# EAGLE library part LT1932ES6 (library Labor)
Constant-Current DC/DC LED Driver in ThinSOT Features Up to 80% Efficiency Inherently Matched LED Current Adjustable Control of LED Current Drives Five White LEDs from 2V Drives Six White LEDs from 2.7V Drives Eight White LEDs from 3V Disconnects LEDs In Shutdown 1.2MHz Fixed Frequency Switching Uses Tiny Ceramic Capacitors Uses Tiny 1mm-Tall Inductors Regulates Current Even When VIN > VOUT Operates with VIN as Low as 1V Low Profile (1mm) ThinSOTTM Package
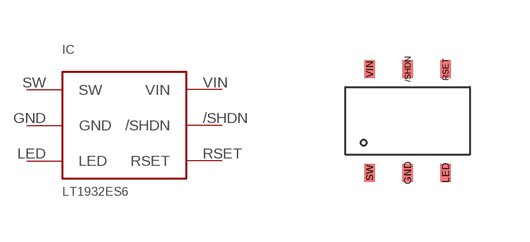
[diagram p7: symbol with the pads of TSOT23-6; footprint TSOT23-6]

Designator prefix IC

## LT1932ES6  [TSOT23-6]
/SHDN  /SHDN  in
GND  GND  pwr
LED  LED  in
RSET  RSET  in
SW  SW  out
VIN  VIN  pwr

## Footprint TSOT23-6 (pad centres in mm)
TSOT23-6
smd 0.254 x 0.457: /SHDN 0,1.3; GND 0,-1.3; LED 0.95,-1.3; RSET 0.95,1.3; SW -0.95,-1.3; VIN -0.95,1.3